# Altium schematic symbol library RES55 OS.Schlib: 1 symbol
Pins are listed as number, name and electrical type; pins without a type are passive.

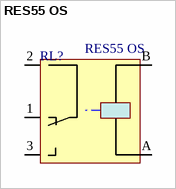
[diagram p0: symbol RES55 OS]

## RES55 OS
designator RL?
Назначение: Низкоточное реле; Наименование: РЭС55 ОС
footprint РЭС55
pins: 1, 2, 3, A, B